# EAGLE library part HIROSE_DF12_60 (library paparazzi)
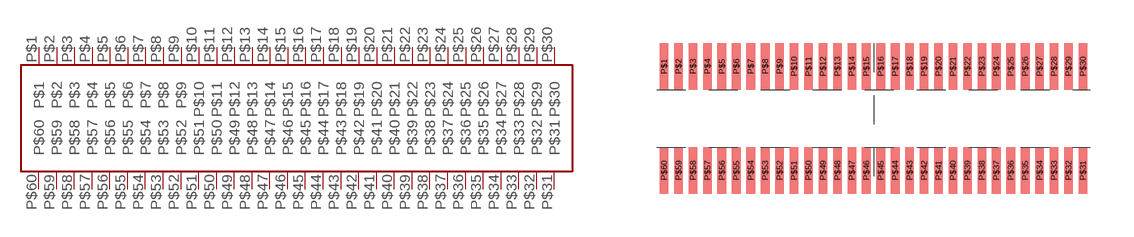
[diagram p16: symbol with the pads of HIROSE_DF12_60; footprint HIROSE_DF12_60]

Designator prefix -

## HIROSE_DF12_60  [HIROSE_DF12_60]
P$1  P$1
P$2  P$2
P$3  P$3
P$4  P$4
P$5  P$5
P$6  P$6
P$7  P$7
P$8  P$8
P$9  P$9
P$10  P$10
P$11  P$11
P$12  P$12
P$13  P$13
P$14  P$14
P$15  P$15
P$16  P$16
P$17  P$17
P$18  P$18
P$19  P$19
P$20  P$20
P$21  P$21
P$22  P$22
P$23  P$23
P$24  P$24
P$25  P$25
P$26  P$26
P$27  P$27
P$28  P$28
P$29  P$29
P$30  P$30
P$31  P$31
P$32  P$32
P$33  P$33
P$34  P$34
P$35  P$35
P$36  P$36
P$37  P$37
P$38  P$38
P$39  P$39
P$40  P$40
P$41  P$41
P$42  P$42
P$43  P$43
P$44  P$44
P$45  P$45
P$46  P$46
P$47  P$47
P$48  P$48
P$49  P$49
P$50  P$50
P$51  P$51
P$52  P$52
P$53  P$53
P$54  P$54
P$55  P$55
P$56  P$56
P$57  P$57
P$58  P$58
P$59  P$59
P$60  P$60

## Footprint HIROSE_DF12_60 (pad centres in mm)
smd 0.3 x 1.6: P$1 -7.25,1.8; P$2 -6.75,1.8; P$3 -6.25,1.8; P$4 -5.75,1.8; P$5 -5.25,1.8; P$6 -4.75,1.8; P$7 -4.25,1.8; P$8 -3.75,1.8; P$9 -3.25,1.8; P$10 -2.75,1.8; P$11 -2.25,1.8; P$12 -1.75,1.8; P$13 -1.25,1.8; P$14 -0.75,1.8; P$15 -0.25,1.8; P$16 0.25,1.8; P$17 0.75,1.8; P$18 1.25,1.8; P$19 1.75,1.8; P$20 2.25,1.8; P$21 2.75,1.8; P$22 3.25,1.8; P$23 3.75,1.8; P$24 4.25,1.8; P$25 4.75,1.8; P$26 5.25,1.8; P$27 5.75,1.8; P$28 6.25,1.8; P$29 6.75,1.8; P$30 7.25,1.8; P$31 7.25,-1.8; P$32 6.75,-1.8; P$33 6.25,-1.8; P$34 5.75,-1.8; P$35 5.25,-1.8; P$36 4.75,-1.8; P$37 4.25,-1.8; P$38 3.75,-1.8; P$39 3.25,-1.8; P$40 2.75,-1.8; P$41 2.25,-1.8; P$42 1.75,-1.8; P$43 1.25,-1.8; P$44 0.75,-1.8; P$45 0.25,-1.8; P$46 -0.25,-1.8; P$47 -0.75,-1.8; P$48 -1.25,-1.8; P$49 -1.75,-1.8; P$50 -2.25,-1.8; P$51 -2.75,-1.8; P$52 -3.25,-1.8; P$53 -3.75,-1.8; P$54 -4.25,-1.8; P$55 -4.75,-1.8; P$56 -5.25,-1.8; P$57 -5.75,-1.8; P$58 -6.25,-1.8; P$59 -6.75,-1.8; P$60 -7.25,-1.8